# EAGLE library part S?18-11*WA (library display-kingbright-2)
45mm (1.8INCH) SINGLE DIGIT NUMERIC DISPLAYS Source : Kingbright PDF SA18-11EWA
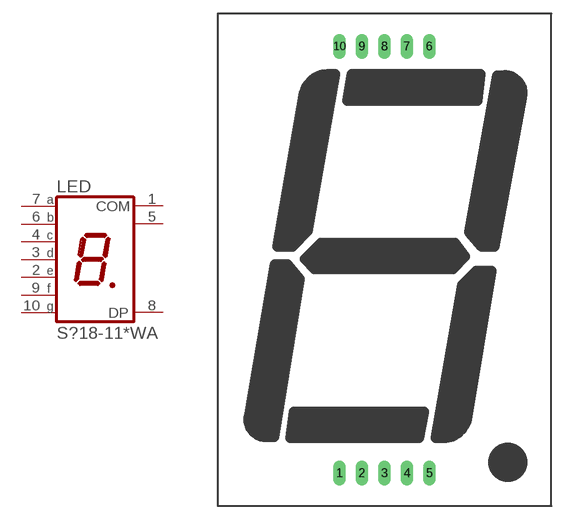
[diagram p10: symbol with the pads of SA18-11; footprint SA18-11]

Designator prefix LED

## SA18-11WA, SA18-11EWA, SA18-11GWA, SA18-11SRWA, SA18-11YWA  [SA18-11]
1  COM  pas
2  E  pas
3  D  pas
4  C  pas
5  COM  pas
6  B  pas
7  A  pas
8  DP  pas
9  F  pas
10  G  pas

## SC18-11EWA, SC18-11GWA, SC18-11SRWA, SC18-11YWA  [SA18-11]
Pads as for SA18-11

## SBA18-11EGWA  [SA18-11]
Pads as for SA18-11

## SBC18-11EGWA  [SA18-11]
Pads as for SA18-11

## Footprint SA18-11 (pad centres in mm)
44.5mm (1.75INCH) SINGLE DIGIT NUMERIC DISPLAY Source: SA18-11EWA(Ver1189472866.5).pdf
drill 0.7 pad 1.422 long: 1 -5.08,-24.13; 2 -2.54,-24.13; 3 0,-24.13; 4 2.54,-24.13; 5 5.08,-24.13; 6 5.08,24.13; 7 2.54,24.13; 8 0,24.13; 9 -2.54,24.13; 10 -5.08,24.13